# Altium schematic symbol library Lib_VFD_Clock.SchLib: 23 symbols
Pins are listed as number, name and electrical type; pins without a type are passive.

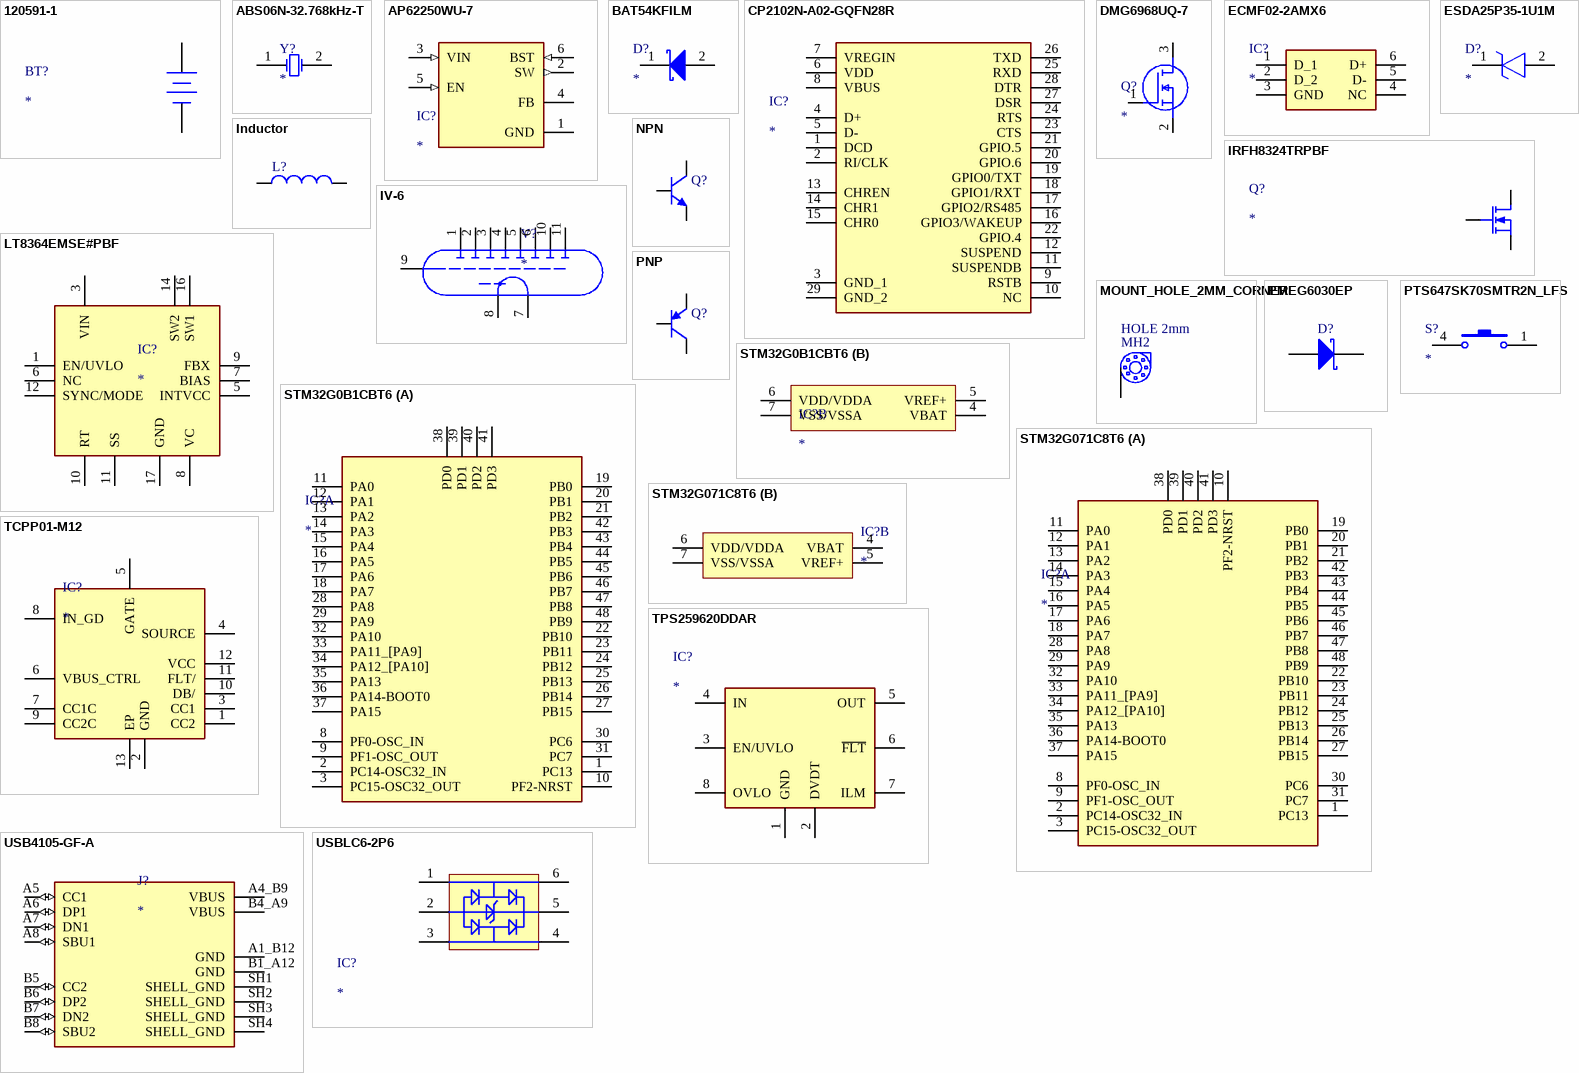
[diagram p0: symbols 120591-1 to USBLC6-2P6]

## 120591-1
designator BT?
Battery; Manufacturer_Name: TE Connectivity; Manufacturer_Part_Number: 120591-1; Datasheet Link: http://www.te.com/commerce/DocumentDelivery/DDEController?Action=srchrtrv&DocNm=120591&DocType=Customer+Drawing&DocLang=English&DocFormat=pdf&PartCntxt=120591-1; Mouser Part Number: 571-1205911; Mouser Price/Stock: https://www.mouser.co.uk/ProductDetail/TE-Connectivity/120591-1?qs=cB%252BprIo57OeZ1n1mnEiYEw%3D%3D; Arrow Part Number: 120591-1; Arrow Price/Stock: https://www.arrow.com/en/products/120591-1/te-connectivity?utm_currency=USD&region=nac
footprint 120591-1
footprint BR1220_Horizontal
pins: 1, 2

## ABS06N-32.768kHz-T
designator Y?
Crystal or Oscillator; Manufacturer_Name: ABRACON; Manufacturer_Part_Number: ABS06N-32.768kHz-T; Datasheet Link: https://abracon.com/datasheets/ABS06N.pdf; Height: 0.6mm
footprint ABS06N32768kHzT
pins: 1, 2

## AP62250WU-7
designator IC?
Integrated Circuit; Manufacturer_Name: Diodes Incorporated; Manufacturer_Part_Number: AP62250WU-7; Datasheet Link: https://www.diodes.com//assets/Datasheets/AP62250.pdf; Height: 1mm; Mouser Part Number: 621-AP62250WU-7; Mouser Price/Stock: https://www.mouser.co.uk/ProductDetail/Diodes-Incorporated/AP62250WU-7?qs=7MVldsJ5Uax1PUc8sdeimQ%3D%3D; Arrow Part Number: AP62250WU-7; Arrow Price/Stock: https://www.arrow.com/en/products/ap62250wu-7/diodes-incorporated?region=europe
footprint TSOT26 (TSOT26, 6-Leads)
pins: 1 GND (power), 2 SW (out), 3 VIN (in), 4 FB, 5 EN (in), 6 BST (in)

## BAT54KFILM
designator D?
Diode; Manufacturer_Name: STMicroelectronics; Manufacturer_Part_Number: BAT54KFILM; Datasheet Link: http://www.st.com/web/en/resource/technical/document/datasheet/CD00001322.pdf; Height: 0.7mm; Mouser Part Number: 511-BAT54KFILM; Mouser Price/Stock: https://www.mouser.co.uk/ProductDetail/STMicroelectronics/BAT54KFILM?qs=jZi1jxfVU95Y9ce6l3OT%252BA%3D%3D; Arrow Part Number: BAT54KFILM; Arrow Price/Stock: https://www.arrow.com/en/products/bat54kfilm/stmicroelectronics?region=europe
footprint SODFL1608X70N
pins: 1 K, 2 A

## CP2102N-A02-GQFN28R
designator IC?
Integrated Circuit; Manufacturer_Name: Silicon Labs; Manufacturer_Part_Number: CP2102N-A02-GQFN28R; Datasheet Link: https://www.silabs.com/documents/public/data-sheets/cp2102n-datasheet.pdf; Height: 0.8mm; Mouser Part Number: 634-CP2102NA02QFN28R; Mouser Price/Stock: https://www.mouser.co.uk/ProductDetail/Silicon-Labs/CP2102N-A02-GQFN28R?qs=u16ybLDytRag4qKvSH3fTw%3D%3D; Arrow Part Number: CP2102N-A02-GQFN28R; Arrow Price/Stock: https://www.arrow.com/en/products/cp2102n-a02-gqfn28r/silicon-labs?utm_currency=USD&region=nac
footprint QFN50P500X500X80-29N-D
pins: 1 DCD, 2 RI/CLK, 3 GND_1, 4 D+, 5 D-, 6 VDD, 7 VREGIN, 8 VBUS, 9 RSTB, 10 NC, 11 SUSPENDB, 12 SUSPEND, 13 CHREN, 14 CHR1, 15 CHR0, 16 GPIO3/WAKEUP, 17 GPIO2/RS485, 18 GPIO1/RXT, 19 GPIO0/TXT, 20 GPIO.6, 21 GPIO.5, 22 GPIO.4, 23 CTS, 24 RTS, 25 RXD, 26 TXD, 27 DSR, 28 DTR, 29 GND_2

## DMG6968UQ-7
designator Q?
MOSFET (N-Channel); Manufacturer_Name: Diodes Incorporated; Manufacturer_Part_Number: DMG6968UQ-7; Datasheet Link: https://www.diodes.com//assets/Datasheets/products_inactive_data/DMG6968UQ.pdf; Height: 1.1mm; Mouser Part Number: 621-DMG6968UQ-7; Mouser Price/Stock: https://www.mouser.co.uk/ProductDetail/Diodes-Incorporated/DMG6968UQ-7?qs=MNIFWdyJgboErGB0%2FFpP4Q%3D%3D; Arrow Part Number: DMG6968UQ-7; Arrow Price/Stock: https://www.arrow.com/en/products/dmg6968uq-7/diodes-incorporated?region=asia
footprint SOT96P240X110-3N
pins: 1 G, 2 S, 3 D

## ECMF02-2AMX6
designator IC?
Integrated Circuit; Manufacturer_Name: STMicroelectronics; Manufacturer_Part_Number: ECMF02-2AMX6; Datasheet Link: http://www.st.com/content/ccc/resource/technical/document/datasheet/3a/28/cf/d0/31/63/48/8c/CD00282307.pdf/files/CD00282307.pdf/jcr:content/translations/en.CD00282307.pdf; Height: 0.55mm; Mouser Part Number: 511-ECMF02-2AMX6; Mouser Price/Stock: https://www.mouser.co.uk/ProductDetail/STMicroelectronics/ECMF02-2AMX6?qs=raAh8RbVwI65u5gmT42%2Flg%3D%3D; Arrow Part Number: ECMF02-2AMX6; Arrow Price/Stock: https://www.arrow.com/en/products/ecmf02-2amx6/stmicroelectronics?utm_currency=USD&region=europe
footprint SON50P150X170X55-6N-D
pins: 1 D_1, 2 D_2, 3 GND, 4 NC, 5 D-, 6 D+

## ESDA25P35-1U1M
designator D?
TVS Diode (Uni-directional); Manufacturer_Name: STMicroelectronics; Manufacturer_Part_Number: ESDA25P35-1U1M; Datasheet Link: https://www.st.com/resource/en/datasheet/esda25p35-1u1m.pdf; Height: 0.6mm; Mouser Part Number: 511-ESDA25P35-1U1M; Mouser Price/Stock: https://www.mouser.co.uk/ProductDetail/STMicroelectronics/ESDA25P35-1U1M?qs=aVyJF2WnouQUWqgNP85ZrA%3D%3D; Arrow Part Number: ESDA25P35-1U1M; Arrow Price/Stock: https://www.arrow.com/en/products/esda25p35-1u1m/stmicroelectronics?utm_currency=USD&region=europe
footprint ESDA25P351U1M
pins: 1 K, 2 A

## Inductor
designator L?
Inductor; Code_IEC: 1005; Published: 8-Jun-2000; LatestRevisionDate: 29-May-2009; LatestRevisionNote: IPC-7351 Footprint Added.; PackageReference: 0402-A; Publisher: Altium Limited; PackageDescription: Chip Inductor; Code_JEITA: 0402
simulation model INDUCTOR (Inductor)
signal-integrity model Inductor
footprint IFDC2020CZER2R2N
pins: 1, 2

## IRFH8324TRPBF
designator Q?
MOSFET (N-Channel); Manufacturer_Name: Infineon; Manufacturer_Part_Number: IRFH8324TRPBF; Datasheet Link: https://www.infineon.com/assets/row/public/documents/24/49/infineon-irfh8324-datasheet-en.pdf; Height: 1.17mm; Mouser Part Number: 942-IRFH8324TRPBF; Mouser Price/Stock: https://www.mouser.co.uk/ProductDetail/Infineon-Technologies/IRFH8324TRPBF?qs=Z8%252BeY1k3TIIcOOn9wmS2TA%3D%3D; Arrow Part Number: IRFH8324TRPBF; Arrow Price/Stock: https://www.arrow.com/en/products/irfh8324trpbf/infineon-technologies-ag?region=nac
footprint IRFH8324TRPBF
pins: 1 S, 2 G, 3 D

## IV-6
designator V?
footprint IV-6 (Vacuum Tube; 9 Leads)
pins: 1, 2, 3, 4, 5, 6, 7, 8, 9, 10, 11

## LT8364EMSE#PBF
designator IC?
Integrated Circuit; Manufacturer_Name: Analog Devices; Manufacturer_Part_Number: LT8364EMSE#PBF; Datasheet Link: https://www.analog.com/media/en/technical-documentation/data-sheets/lt8364.pdf; Height: 1.1mm; Mouser Part Number: 584-LT8364EMSEPBF; Mouser Price/Stock: https://www.mouser.co.uk/ProductDetail/Analog-Devices/LT8364EMSEPBF?qs=W0yvOO0ixfH269lPR9cWrw%3D%3D; Arrow Part Number: LT8364EMSE#PBF; Arrow Price/Stock: https://www.arrow.com/en/products/lt8364emsepbf/analog-devices?region=nac
footprint LT8364EMSEPBF
pins: 1 EN/UVLO, 3 VIN, 5 INTVCC, 6 NC, 7 BIAS, 8 VC, 9 FBX, 10 RT, 11 SS, 12 SYNC/MODE, 14 SW2, 16 SW1, 17 GND

## MOUNT_HOLE_2MM_CORNER
designator MH2, comment HOLE 2mm  (no BOM)
footprint Hole
pins: 0 GND

## NPN
designator Q?
NPN Bipolar Transistor; Published: 8-Jun-2000; LatestRevisionDate: 17-Jul-2002; LatestRevisionNote: Re-released for DXP Platform.; PackageReference: TO-226-AA; Publisher: Altium Limited; PackageDescription: TO, Flat Index; 3 In-Line, Axial Leads; Body Dia. 4.8mm; Leads 0.55 x 0.51 mm (max); Code_JEDEC: TO-226-AA
simulation model NPN
signal-integrity model NPN
footprint SOT-23_N (SOT23, 3-Leads, Body 2.9x1.3mm, Pitch 0.95mm, Lead Span 2.5mm, IPC Medium Density)
pins: 1 C, 2 B, 3 E

## PMEG6030EP
designator D?
Schottky Diode; Published: 8-Jun-2000; LatestRevisionDate: 17-Jul-2002; LatestRevisionNote: Re-released for DXP Platform.; PackageReference: SMB; Publisher: Altium Limited; PackageDescription: DO-214-AA/SMB; 2 C-Bend Leads; Body 5.3 x 3.6 mm, inc. leads (LxW); Code_JEDEC: DO-214-AA
simulation model SKYDIODE (Diode)
signal-integrity model D Schottky
footprint PMEG6030EP115
pins: 1 A, 2 K

## PNP
designator Q?
PNP Bipolar Transistor; Published: 8-Jun-2000; LatestRevisionDate: 29-May-2009; LatestRevisionNote: IPC-7351 Footprint Added.; PackageVersion: Aug-1999; PackageReference: SOT-23B; Publisher: Altium Limited; PackageDescription: 3-Pin SOT-23 Package 0.95 mm Pitch, 2.4 mm Lead Span
footprint SOT-23B_N (SOT23, 3-Leads, Body 2.9x1.3mm, Pitch 0.95mm, Lead Span 2.4mm, IPC Medium Density)
footprint SOT-23B_L (SOT23, 3-Leads, Body 2.9x1.3mm, Pitch 0.95mm, Lead Span 2.4mm, IPC High Density)
footprint SOT-23B_M (SOT23, 3-Leads, Body 2.9x1.3mm, Pitch 0.95mm, Lead Span 2.4mm, IPC Low Density)
simulation model PNP
signal-integrity model PNP
pins: 1 C, 2 B, 3 E

## PTS647SK70SMTR2N_LFS
designator S?
Switch (4-Pin Push); Manufacturer_Name: C & K COMPONENTS; Manufacturer_Part_Number: PTS647SK70SMTR2N LFS; Datasheet Link: https://www.ckswitches.com/media/2567/pts647.pdf; Height: 7mm
footprint PTS647SK70SMTR2NLFS
pins: 1 NO_1, 4 COM_2

## STM32G0B1CBT6
designator IC?
Integrated Circuit; Manufacturer_Name: STMicroelectronics; Manufacturer_Part_Number: STM32G0B1CBT6; Datasheet Link: https://www.st.com/resource/en/datasheet/stm32g0b1cb.pdf; Height: 1.6mm; Mouser Part Number: 511-STM32G0B1CBT6; Mouser Price/Stock: https://www.mouser.co.uk/ProductDetail/STMicroelectronics/STM32G0B1CBT6?qs=CiayqK2gdcKaQJ%2FcS3grXw%3D%3D; Arrow Part Number: STM32G0B1CBT6; Arrow Price/Stock: https://www.arrow.com/en/products/stm32g0b1cbt6/stmicroelectronics?utm_currency=USD&region=nac
footprint QFP50P900X900X160-48N
part A pins: 1 PC13, 2 PC14-OSC32_IN, 3 PC15-OSC32_OUT, 8 PF0-OSC_IN, 9 PF1-OSC_OUT, 10 PF2-NRST, 11 PA0, 12 PA1, 13 PA2, 14 PA3, 15 PA4, 16 PA5, 17 PA6, 18 PA7, 19 PB0, 20 PB1, 21 PB2, 22 PB10, 23 PB11, 24 PB12, 25 PB13, 26 PB14, 27 PB15, 28 PA8, 29 PA9, 30 PC6, 31 PC7, 32 PA10, 33 PA11_[PA9], 34 PA12_[PA10], 35 PA13, 36 PA14-BOOT0, 37 PA15, 38 PD0, 39 PD1, 40 PD2, 41 PD3, 42 PB3, 43 PB4, 44 PB5, 45 PB6, 46 PB7, 47 PB8, 48 PB9
part B pins: 4 VBAT, 5 VREF+, 6 VDD/VDDA, 7 VSS/VSSA

## STM32G071C8T6
designator IC?
Integrated Circuit; Manufacturer_Name: STMicroelectronics; Manufacturer_Part_Number: STM32G071C8T6; Datasheet Link: https://www.st.com/resource/en/datasheet/stm32g071c8.pdf; Height: 1.6mm; Mouser Part Number: 511-STM32G071C8T6; Mouser Price/Stock: https://www.mouser.co.uk/ProductDetail/STMicroelectronics/STM32G071C8T6?qs=uwxL4vQweFM%2FSD74GAUnNA%3D%3D; Arrow Part Number: STM32G071C8T6; Arrow Price/Stock: https://www.arrow.com/en/products/stm32g071c8t6/stmicroelectronics?region=nac
footprint QFP50P900X900X160-48N
part A pins: 1 PC13, 2 PC14-OSC32_IN, 3 PC15-OSC32_OUT, 8 PF0-OSC_IN, 9 PF1-OSC_OUT, 10 PF2-NRST, 11 PA0, 12 PA1, 13 PA2, 14 PA3, 15 PA4, 16 PA5, 17 PA6, 18 PA7, 19 PB0, 20 PB1, 21 PB2, 22 PB10, 23 PB11, 24 PB12, 25 PB13, 26 PB14, 27 PB15, 28 PA8, 29 PA9, 30 PC6, 31 PC7, 32 PA10, 33 PA11_[PA9], 34 PA12_[PA10], 35 PA13, 36 PA14-BOOT0, 37 PA15, 38 PD0, 39 PD1, 40 PD2, 41 PD3, 42 PB3, 43 PB4, 44 PB5, 45 PB6, 46 PB7, 47 PB8, 48 PB9
part B pins: 4 VBAT, 5 VREF+, 6 VDD/VDDA, 7 VSS/VSSA

## TCPP01-M12
designator IC?
Integrated Circuit; Manufacturer_Name: STMicroelectronics; Manufacturer_Part_Number: TCPP01-M12; Datasheet Link: https://www.st.com/resource/en/datasheet/tcpp01-m12.pdf; Height: 1mm; Mouser Part Number: 511-TCPP01-M12; Mouser Price/Stock: https://www.mouser.co.uk/ProductDetail/STMicroelectronics/TCPP01-M12?qs=%252B6g0mu59x7KCafIwapwG2A%3D%3D; Arrow Part Number: TCPP01-M12; Arrow Price/Stock: https://www.arrow.com/en/products/tcpp01-m12/stmicroelectronics?utm_currency=USD&region=nac
footprint QFN50P300X300X100-13N-D
pins: 1 CC2, 2 GND, 3 CC1, 4 SOURCE, 5 GATE, 6 VBUS_CTRL, 7 CC1C, 8 IN_GD, 9 CC2C, 10 DB/, 11 FLT/, 12 VCC, 13 EP

## TPS259620DDAR
designator IC?
Integrated Circuit; Manufacturer_Name: Texas Instruments; Manufacturer_Part_Number: TPS259620DDAR; Datasheet Link: https://www.ti.com/lit/gpn/TPS2596; Height: 1.7mm; Mouser Part Number: 595-TPS259620DDAR; Mouser Price/Stock: https://www.mouser.co.uk/ProductDetail/Texas-Instruments/TPS259620DDAR?qs=XeJtXLiO41RogCpRV1l%252BSg%3D%3D; Arrow Part Number: TPS259620DDAR; Arrow Price/Stock: https://www.arrow.com/en/products/tps259620ddar/texas-instruments
footprint SOIC127P600X170-9N
pins: 1 GND, 2 DVDT, 3 EN/UVLO, 4 IN, 5 OUT, 6 ~{FLT}, 7 ILM, 8 OVLO

## USB4105-GF-A
designator J?
MF: {'manufacturer': u'GCT'}; MP: USB4105-GF-A; Package: None; Price: None; Value: *; Availability: Unavailable
footprint GCT_USB4105-GF-A
pins: A1_B12 GND (power), A4_B9 VBUS (power), A5 CC1 (io), A6 DP1 (io), A7 DN1 (io), A8 SBU1 (io), B1_A12 GND (power), B4_A9 VBUS (power), B5 CC2 (io), B6 DP2 (io), B7 DN2 (io), B8 SBU2 (io), SH1 SHELL_GND (power), SH2 SHELL_GND (power), SH3 SHELL_GND (power), SH4 SHELL_GND (power)

## USBLC6-2P6
designator IC?
Integrated Circuit; Manufacturer_Name: STMicroelectronics; Manufacturer_Part_Number: USBLC6-2P6; Datasheet Link: https://datasheet.lcsc.com/szlcsc/STMicroelectronics-USBLC6-2P6_C15999.pdf; Height: 0.6mm; Mouser Part Number: 511-USBLC6-2P6; Mouser Price/Stock: https://www.mouser.co.uk/ProductDetail/STMicroelectronics/USBLC6-2P6?qs=6ARB0lp6jlViGcbUSvj1Mw%3D%3D; Arrow Part Number: USBLC6-2P6; Arrow Price/Stock: https://www.arrow.com/en/products/usblc6-2p6/stmicroelectronics?utm_currency=USD&region=nac
footprint USBLC62P6
pins: 1 I/O1_1, 2 GND, 3 I/O2_1, 4 I/O2_2, 5 VBUS, 6 I/O1_2